# EAGLE library part CONN,MICR0-SD (library 0_MyTempLIB)
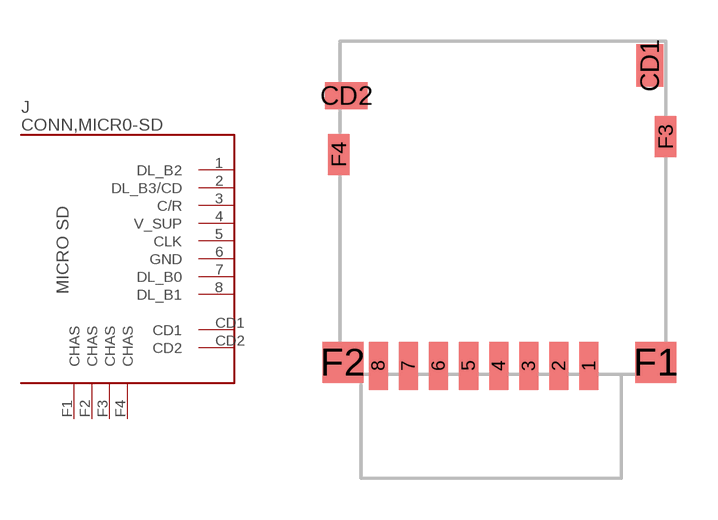
[diagram p16: symbol with the pads of AMP_SD_114-00841-68; footprint AMP_SD_114-00841-68]

Designator prefix J

## CONN,MICR0-SD  [AMP_SD_114-00841-68]
1  DL_B2
2  DL_B3/CD
3  C/R
4  V_SUP
5  CLK
6  GND
7  DL_B0
8  DL_B1
CD1  CD1
CD2  CD2
F1  CHAS
F2  CHAS
F3  CHAS
F4  CHAS

## Footprint AMP_SD_114-00841-68 (pad centres in mm)
smd 0.7 x 1.75: 1 7.7,-0.875; 2 6.6,-0.875; 3 5.5,-0.875; 4 4.4,-0.875; 5 3.3,-0.875; 6 2.2,-0.875; 7 1.1,-0.875; 8 0,-0.875
smd 1 x 1.55: CD1 9.925,10.1
smd 1.55 x 1: CD2 -1.175,9
smd 1.5 x 1.5: F1 10.15,-0.75; F2 -1.3,-0.75
smd 0.8 x 1.5: F3 10.5,7.5; F4 -1.45,6.85